# EAGLE library part MA08-2J (library joakim)
PIN HEADER
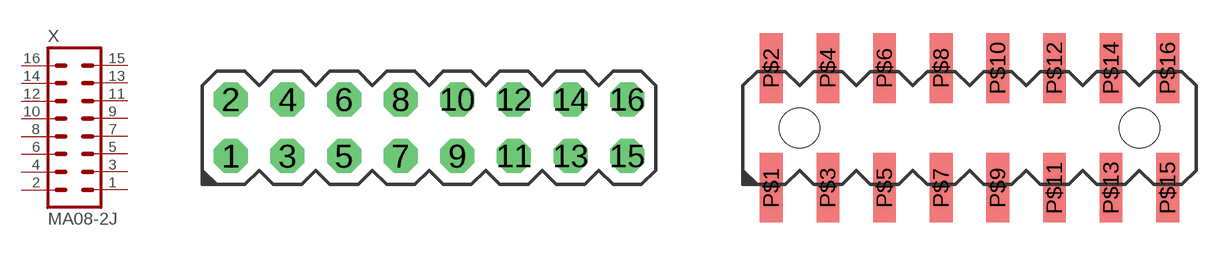
[diagram p11: symbol with the pads of MA08-2J; footprints MA08-2J, MA08-2-SMDJ]

Designator prefix X

## MA08-2J (OC_FARNELL: unknown; OC_NEWARK: unknown)  [MA08-2J]
1  1  pas
2  2  pas
3  3  pas
4  4  pas
5  5  pas
6  6  pas
7  7  pas
8  8  pas
9  9  pas
10  10  pas
11  11  pas
12  12  pas
13  13  pas
14  14  pas
15  15  pas
16  16  pas

## MA08-2JSMD  [MA08-2-SMDJ]
P$1  1  pas
P$2  2  pas
P$3  3  pas
P$4  4  pas
P$5  5  pas
P$6  6  pas
P$7  7  pas
P$8  8  pas
P$9  9  pas
P$10  10  pas
P$11  11  pas
P$12  12  pas
P$13  13  pas
P$14  14  pas
P$15  15  pas
P$16  16  pas

## Footprint MA08-2J (pad centres in mm)
PIN HEADER
drill 1.016 octagon: 1 -8.89,-1.27; 2 -8.89,1.27; 3 -6.35,-1.27; 4 -6.35,1.27; 5 -3.81,-1.27; 6 -3.81,1.27; 7 -1.27,-1.27; 8 -1.27,1.27; 9 1.27,-1.27; 10 1.27,1.27; 11 3.81,-1.27; 12 3.81,1.27; 13 6.35,-1.27; 14 6.35,1.27; 15 8.89,-1.27; 16 8.89,1.27

## Footprint MA08-2-SMDJ (pad centres in mm)
PIN HEADER, 8 x 2 SMD Based on https://wmsc.lcsc.com/wmsc/upload/file/pdf/v2/lcsc/2312170041_HCTL-PZ254-2-08-S_C3294466.pdf JLCPCB part number C3294466
smd 1.02 x 3.12: P$1 -8.89,-2.69; P$2 -8.89,2.69; P$3 -6.35,-2.69; P$4 -6.35,2.69; P$5 -3.81,-2.69; P$6 -3.81,2.69; P$7 -1.27,-2.69; P$8 -1.27,2.69; P$9 1.27,-2.69; P$10 1.27,2.69; P$11 3.81,-2.69; P$12 3.81,2.69; P$13 6.35,-2.69; P$14 6.35,2.69; P$15 8.89,-2.69; P$16 8.89,2.69
hole 1.8 at -7.62,0
hole 1.8 at 7.62,0